# Altium schematic symbol library DS2480B.SchLib: 1 symbol
Pins are listed as number, name and electrical type; pins without a type are passive.

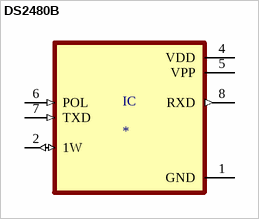
[diagram p0: symbol DS2480B]

## DS2480B
designator IC
1/0 Driver RS232 8-SOIC; MP: DS2480B; MF: Maxim Integrated; SnapEDA_Link: https://www.snapeda.com/parts/DS2480B/Maxim%20Integrated/view-part/2748205/?ref=snap; Value: *; Package: SOIC-8 Maxim Integrated; Price: None; Availability: Unavailable
footprint SOIC127P600X175-8N
pins: 1 GND (power), 2 1W (io), 4 VDD (power), 5 VPP (power), 6 POL (in), 7 TXD (in), 8 RXD (out)